# Altium schematic symbol library HZK_IC.SchLib: 24 symbols
Pins are listed as number, name and electrical type; pins without a type are passive.

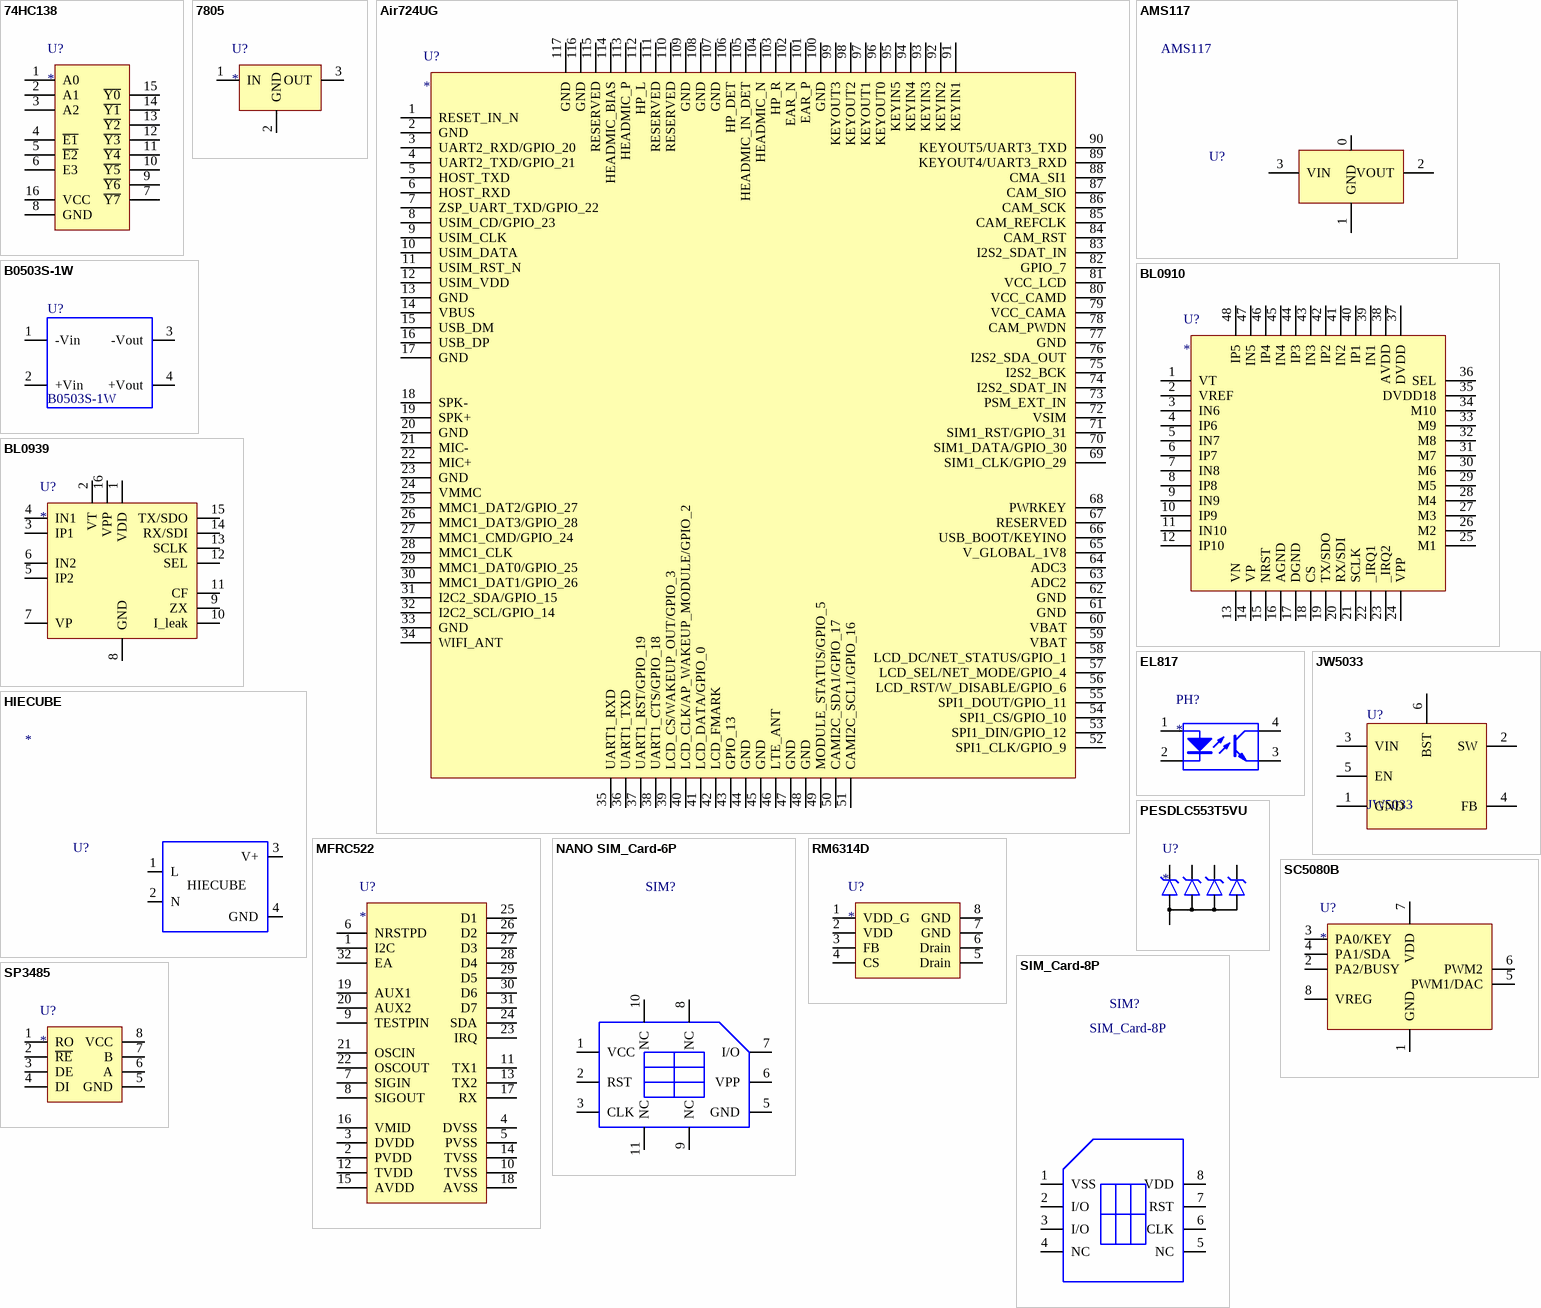
[diagram p0: symbols 74HC138 to SP3485]

## 74HC138
designator U?
三八译码器
footprint SOP-16
pins: 1 A0, 2 A1, 3 A2, 4 ~{E1}, 5 ~{E2}, 6 E3, 7 ~{Y7}, 8 GND, 9 ~{Y6}, 10 ~{Y5}, 11 ~{Y4}, 12 ~{Y3}, 13 ~{Y2}, 14 ~{Y1}, 15 ~{Y0}, 16 VCC

## 7805
designator U?
5V线性稳压芯片
footprint TO-252
pins: 1 IN, 2 GND, 3 OUT

## Air724UG
designator U?
LTE-Cat.1
footprint Air724UG
pins: 1 RESET_IN_N, 2 GND, 3 UART2_RXD/GPIO_20, 4 UART2_TXD/GPIO_21, 5 HOST_TXD, 6 HOST_RXD, 7 ZSP_UART_TXD/GPIO_22, 8 USIM_CD/GPIO_23, 9 USIM_CLK, 10 USIM_DATA, 11 USIM_RST_N, 12 USIM_VDD, 13 GND, 14 VBUS, 15 USB_DM, 16 USB_DP, 17 GND, 18 SPK-, 19 SPK+, 20 GND, 21 MIC-, 22 MIC+, 23 GND, 24 VMMC, 25 MMC1_DAT2/GPIO_27, 26 MMC1_DAT3/GPIO_28, 27 MMC1_CMD/GPIO_24, 28 MMC1_CLK, 29 MMC1_DAT0/GPIO_25, 30 MMC1_DAT1/GPIO_26, 31 I2C2_SDA/GPIO_15, 32 I2C2_SCL/GPIO_14, 33 GND, 34 WIFI_ANT, 35 UART1_RXD, 36 UART1_TXD, 37 UART1_RST/GPIO_19, 38 UART1_CTS/GPIO_18, 39 LCD_CS/WAKEUP_OUT/GPIO_3, 40 LCD_CLK/AP_WAKEUP_MODULE/GPIO_2, 41 LCD_DATA/GPIO_0, 42 LCD_FMARK, 43 GPIO_13, 44 GND, 45 GND, 46 LTE_ANT, 47 GND, 48 GND, 49 MODULE_STATUS/GPIO_5, 50 CAMI2C_SDA1/GPIO_17, 51 CAMI2C_SCL1/GPIO_16, 52 SPI1_CLK/GPIO_9, 53 SPI1_DIN/GPIO_12, 54 SPI1_CS/GPIO_10, 55 SPI1_DOUT/GPIO_11, 56 LCD_RST/W_DISABLE/GPIO_6, 57 LCD_SEL/NET_MODE/GPIO_4, 58 LCD_DC/NET_STATUS/GPIO_1, 59 VBAT, 60 VBAT, 61 GND, 62 GND, 63 ADC2, 64 ADC3, 65 V_GLOBAL_1V8, 66 USB_BOOT/KEYINO, 67 RESERVED, 68 PWRKEY, 69 SIM1_CLK/GPIO_29, 70 SIM1_DATA/GPIO_30, 71 SIM1_RST/GPIO_31, 72 VSIM, 73 PSM_EXT_IN, 74 I2S2_SDAT_IN, 75 I2S2_BCK, 76 I2S2_SDA_OUT, 77 GND, 78 CAM_PWDN, 79 VCC_CAMA, 80 VCC_CAMD, 81 VCC_LCD, 82 GPIO_7, 83 I2S2_SDAT_IN, 84 CAM_RST, 85 CAM_REFCLK, 86 CAM_SCK, 87 CAM_SIO, 88 CMA_SI1, 89 KEYOUT4/UART3_RXD, 90 KEYOUT5/UART3_TXD, 91 KEYIN1, 92 KEYIN2, 93 KEYIN3, 94 KEYIN4, 95 KEYIN5, 96 KEYOUT0, 97 KEYOUT1, 98 KEYOUT2, 99 KEYOUT3, 100 GND, 101 EAR_P, 102 EAR_N, 103 HP_R, 104 HEADMIC_N, 105 HEADMIC_IN_DET, 106 HP_DET, 107 GND, 108 GND, 109 GND, 110 RESERVED, 111 RESERVED, 112 HP_L, 113 HEADMIC_P, 114 HEADMIC_BIAS, 115 RESERVED, 116 GND, 117 GND

## AMS117
designator U?
3.3V线性稳压芯片
footprint SOT-223
pins: 0, 1 GND, 2 VOUT, 3 VIN

## B0503S-1W
designator U?
DC-DC隔离电源模块，5V转3.3V单路输出
footprint B0503S-1W (DC-DC隔离电源模块)
pins: 1 -Vin, 2 +Vin, 3 -Vout, 4 +Vout

## BL0910
designator U?
电能计量芯片
footprint LQFP-48
pins: 1 VT, 2 VREF, 3 IN6, 4 IP6, 5 IN7, 6 IP7, 7 IN8, 8 IP8, 9 IN9, 10 IP9, 11 IN10, 12 IP10, 13 VN, 14 VP, 15 NRST, 16 AGND, 17 DGND, 18 CS, 19 TX/SDO, 20 RX/SDI, 21 SCLK, 22 _IRQ1, 23 _IRQ2, 24 VPP, 25 M1, 26 M2, 27 M3, 28 M4, 29 M5, 30 M6, 31 M7, 32 M8, 33 M9, 34 M10, 35 DVDD18, 36 SEL, 37 DVDD, 38 AVDD, 39 IN1, 40 IP1, 41 IN2, 42 IP2, 43 IN3, 44 IP3, 45 IN4, 46 IP4, 47 IN5, 48 IP5

## BL0939
designator U?
电能计量芯片
footprint SOP-16
pins: 1 VDD, 2 VT, 3 IP1, 4 IN1, 5 IP2, 6 IN2, 7 VP, 8 GND, 9 ZX, 10 I_leak, 11 CF, 12 SEL, 13 SCLK, 14 RX/SDI, 15 TX/SDO, 16 VPP

## EL817
designator PH?
线性光耦; 版: 源创客; BO: 线性光耦; 学习资源: www.ooocke.com
footprint SOP-4-W (6.5*4.58*3.5mm（长宽高）)
pins: 1 A "Anode", 2 K "Cathode", 3 E "Emitter", 4 C "Collector"

## HIECUBE
designator U?
开关电源隔离稳压模块
footprint HIECUBE-HQxxP12LRN
pins: 1 L, 2 N, 3 V+, 4 GND

## JW5033
designator U?
同步降压转换芯片
footprint SOT-23-6 (3x1.6x1.1mm(长宽高))
pins: 1 GND, 2 SW, 3 VIN, 4 FB, 5 EN, 6 BST

## MFRC522
designator U?
非接触式读卡器IC
footprint QFN-32 (32脚，长x宽x高：5x5x0.95mm，脚距：0.5mm)
pins: 1 I2C, 2 PVDD, 3 DVDD, 4 DVSS, 5 PVSS, 6 NRSTPD, 7 SIGIN, 8 SIGOUT, 9 TESTPIN, 10 TVSS, 11 TX1, 12 TVDD, 13 TX2, 14 TVSS, 15 AVDD, 16 VMID, 17 RX, 18 AVSS, 19 AUX1, 20 AUX2, 21 OSCIN, 22 OSCOUT, 23 IRQ, 24 SDA, 25 D1, 26 D2, 27 D3, 28 D4, 29 D5, 30 D6, 31 D7, 32 EA

## NANO SIM_Card-6P
designator SIM?
翻盖NANO SIM卡6脚卡座翻盖NANO SIM卡6脚卡座; Manufacture 1 P/N: S0HG-180006-03G; De: 1.8H掀盖 Micro SIM卡座;16.3*14.66*1.8mm; Geometry.Height: 1.8mm; PCB DECAL: S0HG-180006-03G
footprint NANO SIM_Card-6P (翻盖NANO SIM卡6脚卡座)
pins: 1 VCC, 2 RST, 3 CLK, 5 GND, 6 VPP, 7 I/O, 8 NC, 9 NC, 10 NC, 11 NC

## PESDLC553T5VU
designator U?
ESD/TVS静电保护管
footprint SOT-553
pins: 1, 2, 3, 4, 5

## RM6314D
designator U?
电流控制型PWM交直流转换控制器
footprint DIP-8 (9.4*7.6*3.8(长宽高))
footprint DIP-8-MH (带底座 9.4*7.6*3)
pins: 1 VDD_G, 2 VDD, 3 FB, 4 CS, 5 Drain, 6 Drain, 7 GND, 8 GND

## SC5080B
designator U?
语音芯片
footprint SOP-8
pins: 1 GND, 2 PA2/BUSY, 3 PA0/KEY, 4 PA1/SDA, 5 PWM1/DAC, 6 PWM2, 7 VDD, 8 VREG

## SIM_Card-8P
designator SIM?
工业贴片SIM卡; Manufacture 1 P/N: S0HG-180006-03G; De: 1.8H掀盖 Micro SIM卡座;16.3*14.66*1.8mm; Geometry.Height: 1.8mm; PCB DECAL: S0HG-180006-03G
footprint SIM_Card-8P (工业贴片SIM卡)
pins: 1 VSS, 2 I/O, 3 I/O, 4 NC, 5 NC, 6 CLK, 7 RST, 8 VDD

## SP3485
designator U?
低功耗半双工RS485收发器
footprint SOP-8
pins: 1 RO, 2 ~{RE}, 3 DE, 4 DI, 5 GND, 6 A, 7 B, 8 VCC

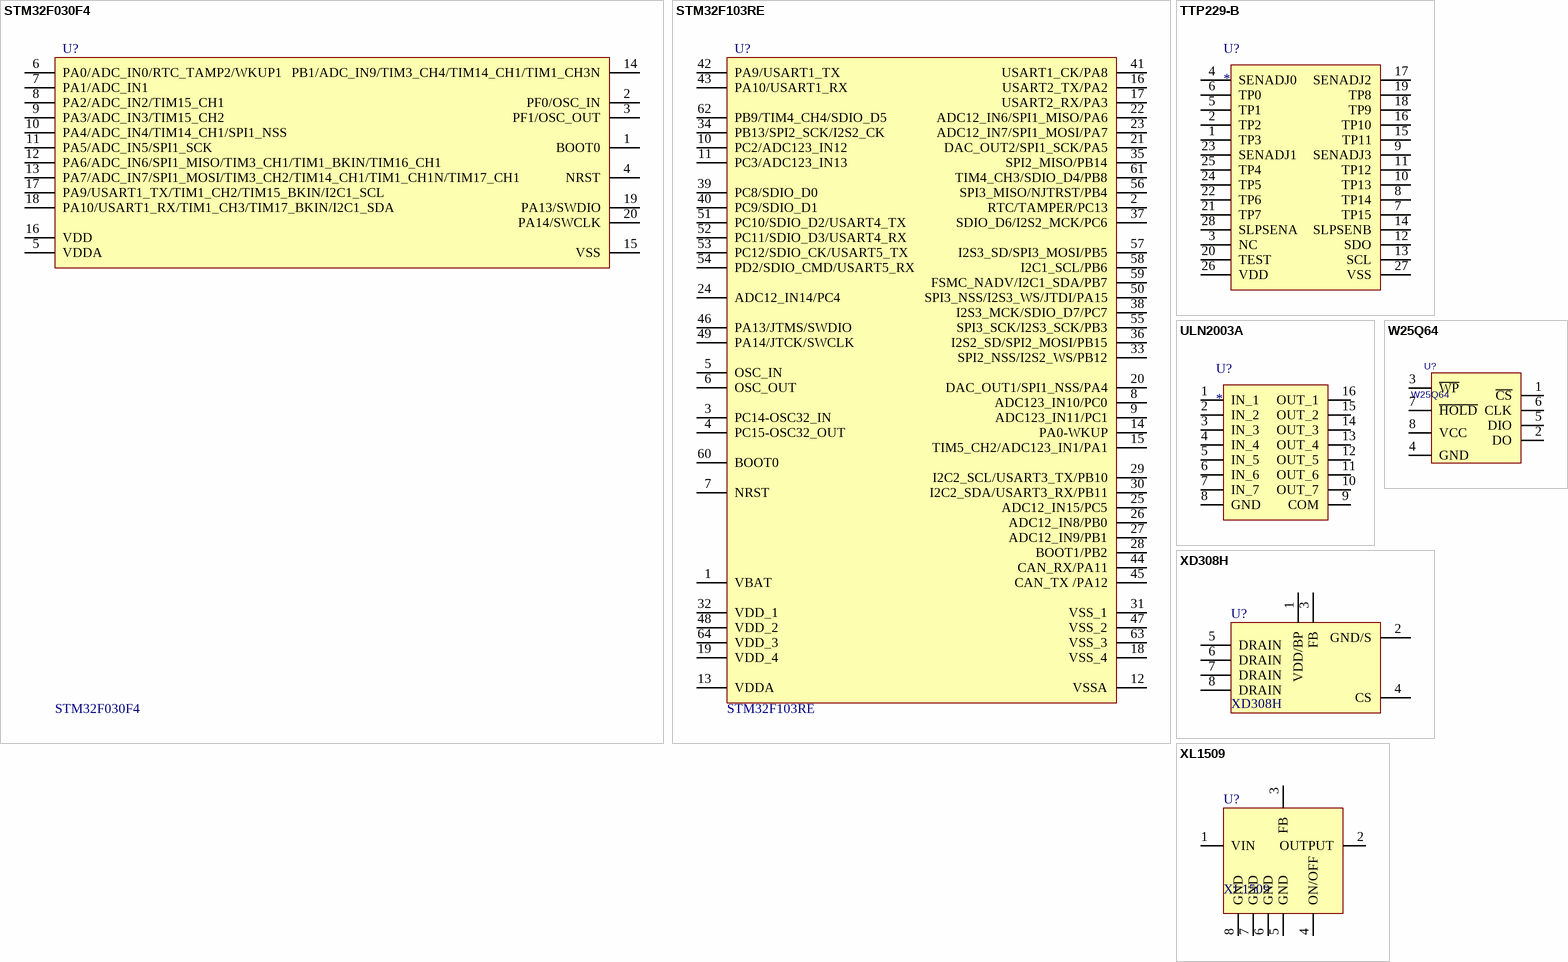
[diagram p1: symbols STM32F030F4 to XL1509]

## STM32F030F4
designator U?
学习: www.ooocke.com
footprint TSSOP-20 (6.5*6.4*1（长宽高）)
pins: 1 BOOT0, 2 PF0/OSC_IN, 3 PF1/OSC_OUT, 4 NRST, 5 VDDA, 6 PA0/ADC_IN0/RTC_TAMP2/WKUP1, 7 PA1/ADC_IN1, 8 PA2/ADC_IN2/TIM15_CH1, 9 PA3/ADC_IN3/TIM15_CH2, 10 PA4/ADC_IN4/TIM14_CH1/SPI1_NSS, 11 PA5/ADC_IN5/SPI1_SCK, 12 PA6/ADC_IN6/SPI1_MISO/TIM3_CH1/TIM1_BKIN/TIM16_CH1, 13 PA7/ADC_IN7/SPI1_MOSI/TIM3_CH2/TIM14_CH1/TIM1_CH1N/TIM17_CH1, 14 PB1/ADC_IN9/TIM3_CH4/TIM14_CH1/TIM1_CH3N, 15 VSS, 16 VDD, 17 PA9/USART1_TX/TIM1_CH2/TIM15_BKIN/I2C1_SCL, 18 PA10/USART1_RX/TIM1_CH3/TIM17_BKIN/I2C1_SDA, 19 PA13/SWDIO, 20 PA14/SWCLK

## STM32F103RE
designator U?
学习: www.ooocke.com
footprint LQFP-64-10x10
pins: 1 VBAT, 2 RTC/TAMPER/PC13, 3 PC14-OSC32_IN, 4 PC15-OSC32_OUT, 5 OSC_IN, 6 OSC_OUT, 7 NRST, 8 ADC123_IN10/PC0, 9 ADC123_IN11/PC1, 10 PC2/ADC123_IN12, 11 PC3/ADC123_IN13, 12 VSSA, 13 VDDA, 14 PA0-WKUP, 15 TIM5_CH2/ADC123_IN1/PA1, 16 USART2_TX/PA2, 17 USART2_RX/PA3, 18 VSS_4, 19 VDD_4, 20 DAC_OUT1/SPI1_NSS/PA4, 21 DAC_OUT2/SPI1_SCK/PA5, 22 ADC12_IN6/SPI1_MISO/PA6, 23 ADC12_IN7/SPI1_MOSI/PA7, 24 ADC12_IN14/PC4, 25 ADC12_IN15/PC5, 26 ADC12_IN8/PB0, 27 ADC12_IN9/PB1, 28 BOOT1/PB2, 29 I2C2_SCL/USART3_TX/PB10, 30 I2C2_SDA/USART3_RX/PB11, 31 VSS_1, 32 VDD_1, 33 SPI2_NSS/I2S2_WS/PB12, 34 PB13/SPI2_SCK/I2S2_CK, 35 SPI2_MISO/PB14, 36 I2S2_SD/SPI2_MOSI/PB15, 37 SDIO_D6/I2S2_MCK/PC6, 38 I2S3_MCK/SDIO_D7/PC7, 39 PC8/SDIO_D0, 40 PC9/SDIO_D1, 41 USART1_CK/PA8, 42 PA9/USART1_TX, 43 PA10/USART1_RX, 44 CAN_RX/PA11, 45 CAN_TX /PA12, 46 PA13/JTMS/SWDIO, 47 VSS_2, 48 VDD_2, 49 PA14/JTCK/SWCLK, 50 SPI3_NSS/I2S3_WS/JTDI/PA15, 51 PC10/SDIO_D2/USART4_TX, 52 PC11/SDIO_D3/USART4_RX, 53 PC12/SDIO_CK/USART5_TX, 54 PD2/SDIO_CMD/USART5_RX, 55 SPI3_SCK/I2S3_SCK/PB3, 56 SPI3_MISO/NJTRST/PB4, 57 I2S3_SD/SPI3_MOSI/PB5, 58 I2C1_SCL/PB6, 59 FSMC_NADV/I2C1_SDA/PB7, 60 BOOT0, 61 TIM4_CH3/SDIO_D4/PB8, 62 PB9/TIM4_CH4/SDIO_D5, 63 VSS_3, 64 VDD_3

## TTP229-B
designator U?
16路电容式触摸芯片
footprint SSOP-28 (10.2*7.8*1.9mm(长宽高）)
pins: 1 TP3, 2 TP2, 3 NC, 4 SENADJ0, 5 TP1, 6 TP0, 7 TP15, 8 TP14, 9 SENADJ3, 10 TP13, 11 TP12, 12 SDO, 13 SCL, 14 SLPSENB, 15 TP11, 16 TP10, 17 SENADJ2, 18 TP9, 19 TP8, 20 TEST, 21 TP7, 22 TP6, 23 SENADJ1, 24 TP5, 25 TP4, 26 VDD, 27 VSS, 28 SLPSENA

## ULN2003A
designator U?
达林顿晶体管阵列
footprint SOP-16
pins: 1 IN_1, 2 IN_2, 3 IN_3, 4 IN_4, 5 IN_5, 6 IN_6, 7 IN_7, 8 GND, 9 COM, 10 OUT_7, 11 OUT_6, 12 OUT_5, 13 OUT_4, 14 OUT_3, 15 OUT_2, 16 OUT_1

## W25Q64
designator U?
8M FLASH存储器; PCB DECAL: SO8WB
footprint SOP-8-W
pins: 1 ~{CS}, 2 DO, 3 ~{WP}, 4 GND, 5 DIO, 6 CLK, 7 ~{HOLD}, 8 VCC

## XD308H
designator U?
非隔离降压芯片
footprint SOP-8
pins: 1 VDD/BP, 2 GND/S, 3 FB, 4 CS, 5 DRAIN, 6 DRAIN, 7 DRAIN, 8 DRAIN

## XL1509
designator U?
开关型电压调节器
footprint SOP-8
pins: 1 VIN, 2 OUTPUT, 3 FB, 4 ON/OFF, 5 GND, 6 GND, 7 GND, 8 GND